# EAGLE library part RTC_PCF8563_MODULE (library rtc-pcf8563)
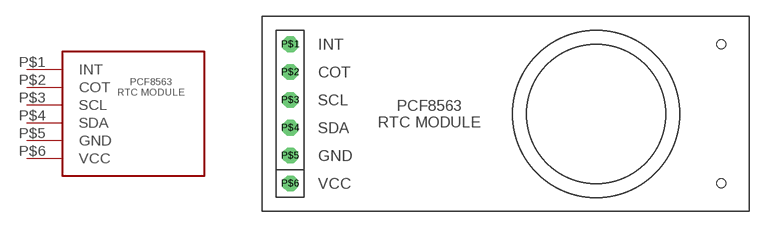
[diagram p0: symbol with the pads of RTC_PCF8563_MODULE; footprint RTC_PCF8563_MODULE]

Designator prefix -

## RTC_PCF8563_MODULE  [RTC_PCF8563_MODULE]
P$1  INT
P$2  COT
P$3  SCL
P$4  SDA
P$5  GND  pwr
P$6  VCC  pwr

## Footprint RTC_PCF8563_MODULE (pad centres in mm)
drill 0.813 pad 1.422 octagon: P$1 2.54,6.35; P$2 2.54,3.81; P$3 2.54,1.27; P$4 2.54,-1.27; P$5 2.54,-3.81; P$6 2.54,-6.35
hole 0.813 at 41.91,6.35
hole 0.813 at 41.91,-6.35